# EAGLE library part 24AA1025-I/SM (library Microchip_By_element14_Batch_1)
EEPROM,1K,I2C,1.8V,128X8
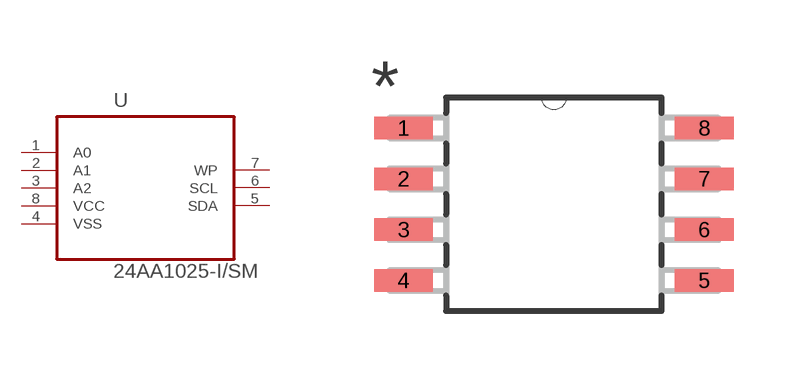
[diagram p4: symbol with the pads of SOIC127P794X203-8N; footprint SOIC127P794X203-8N]

Designator prefix U

## 24AA1025-I/SM (MPN: 24AA1025-I/SM; OC_FARNELL: 1579569; OC_NEWARK: 56K7662; PACKAGE: SOIJ8; SUPPLIER: Microchip)  [SOIC127P794X203-8N]
1  A0  in
2  A1  in
3  A2  in
4  VSS  pas
5  SDA
6  SCL  in
7  WP  in
8  VCC  pwr

## Footprint SOIC127P794X203-8N (pad centres in mm)
smd 1.473 x 0.559: 1 -3.759,1.905; 2 -3.759,0.635; 3 -3.759,-0.635; 4 -3.759,-1.905; 5 3.759,-1.905; 6 3.759,-0.635; 7 3.759,0.635; 8 3.759,1.905